# EAGLE library part DCS (library GPIB_epccs)
Sorensen is now Xantrex
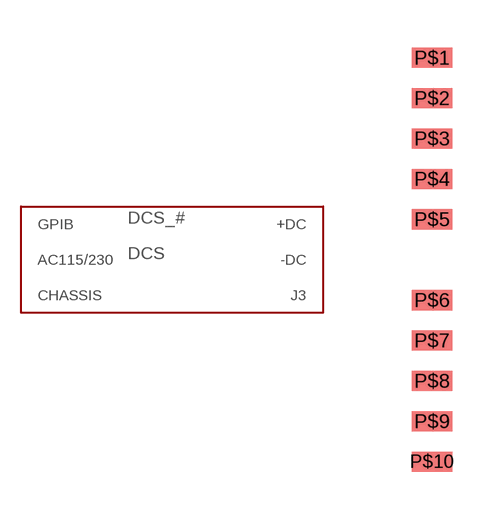
[diagram p0: symbol with the pads of POS10; footprint POS10]

Designator prefix DCS_#

## DCS  [POS10]
P$1  +DC
P$2  -DC
P$3  AC115/230
P$4  CHASSIS
P$5  GPIB
P$6  J3

## Footprint POS10 (pad centres in mm)
10 position
smd 1.27 x 0.635: P$1 0,6.35; P$2 0,5.08; P$3 0,3.81; P$4 0,2.54; P$5 0,1.27; P$6 0,-1.27; P$7 0,-2.54; P$8 0,-3.81; P$9 0,-5.08; P$10 0,-6.35